# Altium schematic symbol library LM555CN.SchLib: 1 symbol
Pins are listed as number, name and electrical type; pins without a type are passive.

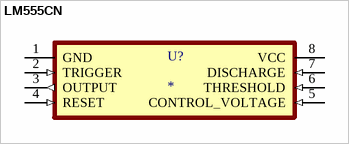
[diagram p0: symbol LM555CN]

## LM555CN
designator U?
MP: LM555CN/NOPB; MF: {'manufacturer': u'ON Semiconductor'}; Package: None; Value: *; Price: None; Availability: Unavailable
footprint DIP794W45P254L959H508Q8
pins: 1 GND (power), 2 TRIGGER (in), 3 OUTPUT (out), 4 RESET (in), 5 CONTROL_VOLTAGE (in), 6 THRESHOLD (in), 7 DISCHARGE (in), 8 VCC (power)